# EAGLE library part ADP3330ARTZ-2.5-R7 (library SpectroLib)
Low Dropout Regulator
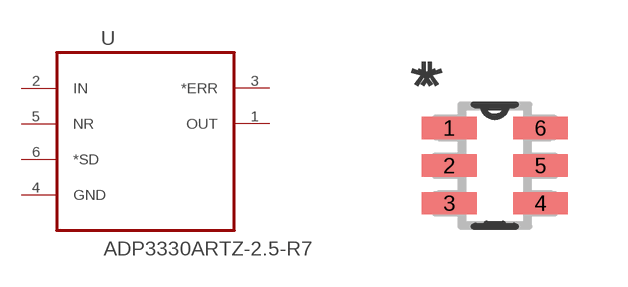
[diagram p2: symbol with the pads of SOT95P280X145-6N; footprint SOT95P280X145-6N]

Designator prefix U

## ADP3330ARTZ-2.5-R7 (MPN: ADP3330ARTZ-2.5-R7; OC_FARNELL: 2074870; OC_NEWARK: 67W2710; PACKAGE: SOT-23-6; SUPPLIER: Analog Devices)  [SOT95P280X145-6N]
1  OUT  pas
2  IN  pas
3  *ERR  pas
4  GND  out
5  NR  in
6  *SD  out

## Footprint SOT95P280X145-6N (pad centres in mm)
smd 1.372 x 0.559: 1 -1.143,0.94; 2 -1.143,0; 3 -1.143,-0.94; 4 1.143,-0.94; 5 1.143,0; 6 1.143,0.94